# Altium schematic symbol library dungvh03-CERN_Logic.SchLib: 486 symbols (part 6 of 54)
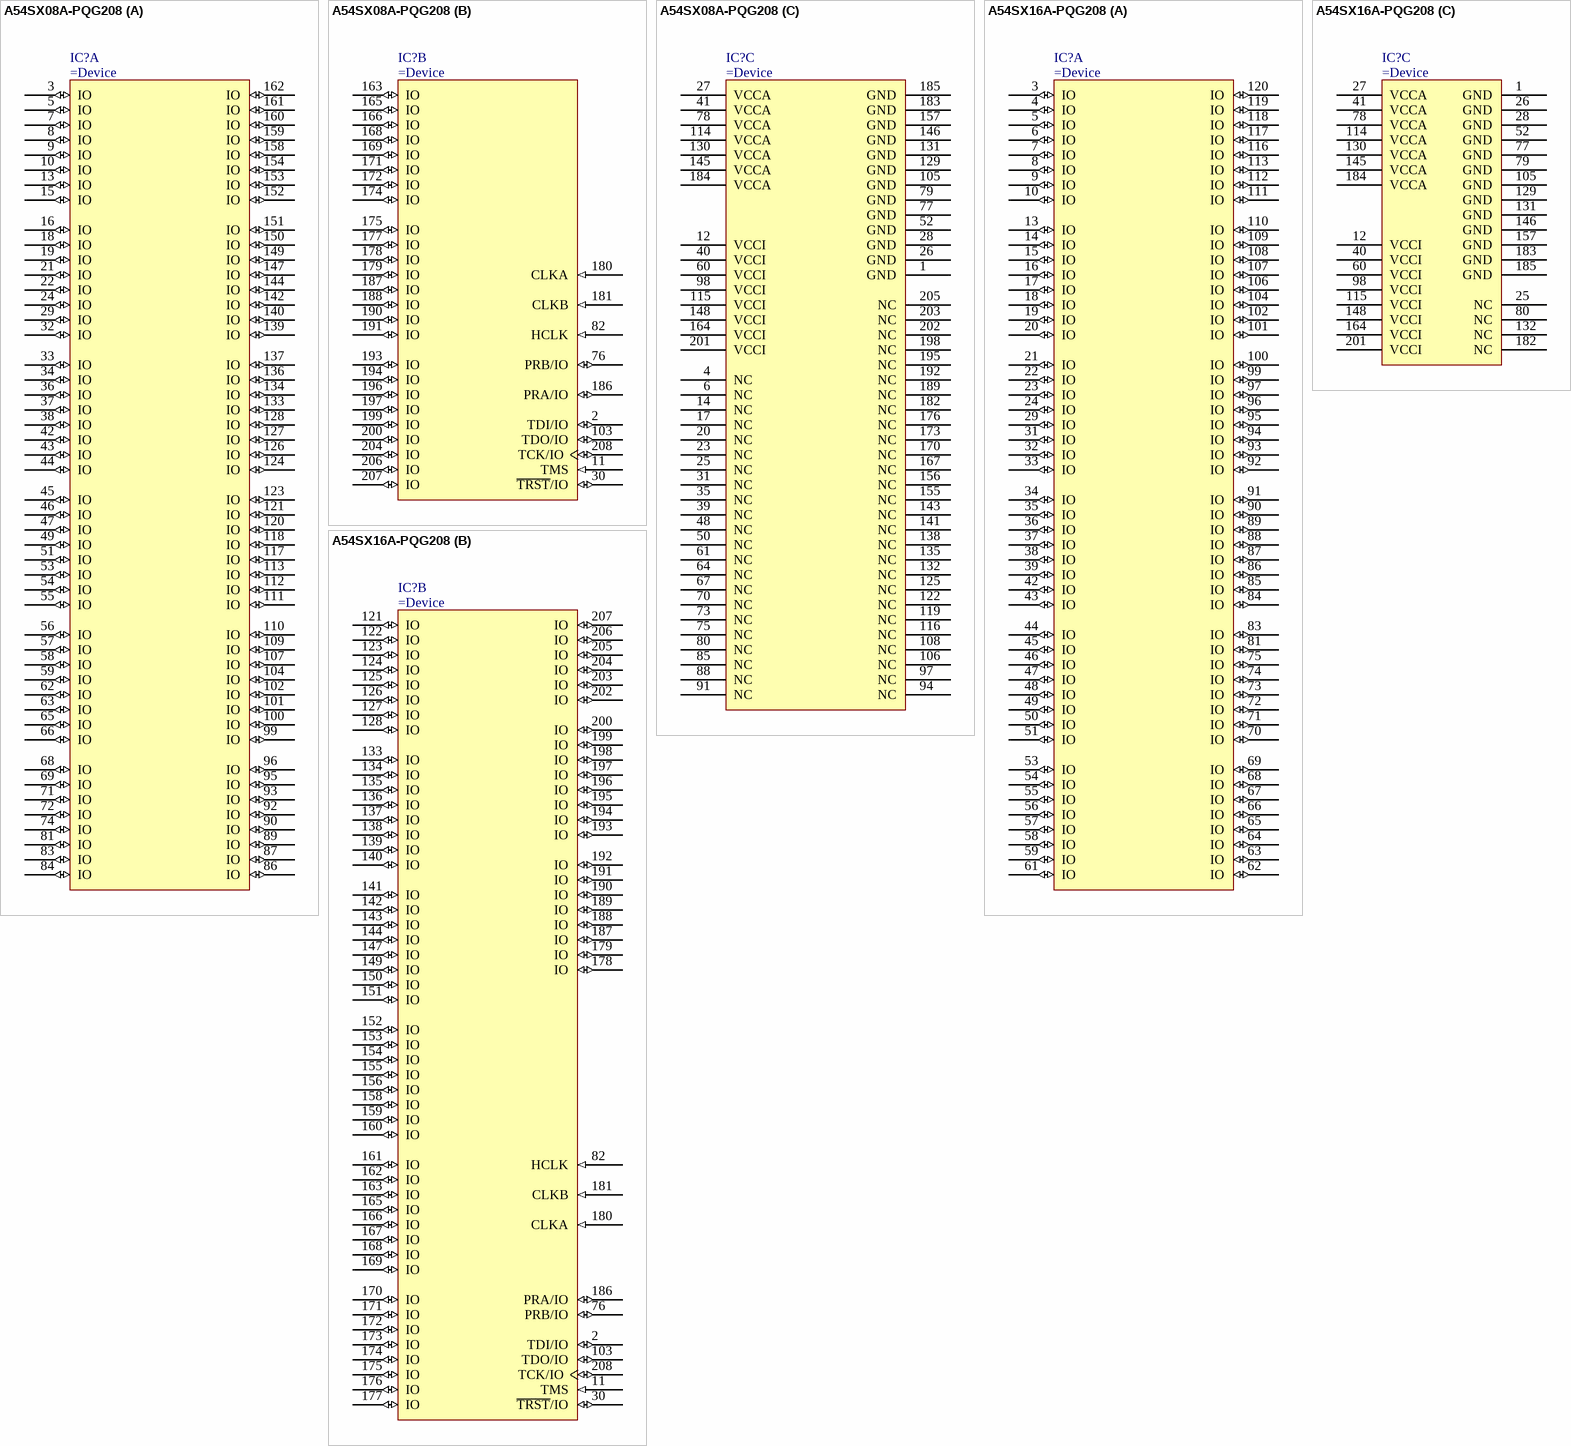
[diagram p266: symbols A54SX08A-PQG208 to A54SX16A-PQG208]

## A54SX08A-PQG208
designator IC?
A54SX16A FPGA, 130 User IOs, 208-Pin PQFP, Standard Speed Grade, Commercial Grade, Pb-Free
part A pins: 3 IO (io), 5 IO (io), 7 IO (io), 8 IO (io), 9 IO (io), 10 IO (io), 13 IO (io), 15 IO (io), 16 IO (io), 18 IO (io), 19 IO (io), 21 IO (io), 22 IO (io), 24 IO (io), 29 IO (io), 32 IO (io), 33 IO (io), 34 IO (io), 36 IO (io), 37 IO (io), 38 IO (io), 42 IO (io), 43 IO (io), 44 IO (io), 45 IO (io), 46 IO (io), 47 IO (io), 49 IO (io), 51 IO (io), 53 IO (io), 54 IO (io), 55 IO (io), 56 IO (io), 57 IO (io), 58 IO (io), 59 IO (io), 62 IO (io), 63 IO (io), 65 IO (io), 66 IO (io), 68 IO (io), 69 IO (io), 71 IO (io), 72 IO (io), 74 IO (io), 81 IO (io), 83 IO (io), 84 IO (io), 86 IO (io), 87 IO (io), 89 IO (io), 90 IO (io), 92 IO (io), 93 IO (io), 95 IO (io), 96 IO (io), 99 IO (io), 100 IO (io), 101 IO (io), 102 IO (io), 104 IO (io), 107 IO (io), 109 IO (io), 110 IO (io), 111 IO (io), 112 IO (io), 113 IO (io), 117 IO (io), 118 IO (io), 120 IO (io), 121 IO (io), 123 IO (io), 124 IO (io), 126 IO (io), 127 IO (io), 128 IO (io), 133 IO (io), 134 IO (io), 136 IO (io), 137 IO (io), 139 IO (io), 140 IO (io), 142 IO (io), 144 IO (io), 147 IO (io), 149 IO (io), 150 IO (io), 151 IO (io), 152 IO (io), 153 IO (io), 154 IO (io), 158 IO (io), 159 IO (io), 160 IO (io), 161 IO (io), 162 IO (io)
part B pins: 2 TDI/IO (io), 11 TMS (in), 30 ~{TRST}/IO (io), 76 PRB/IO (io), 82 HCLK (in), 103 TDO/IO (io), 163 IO (io), 165 IO (io), 166 IO (io), 168 IO (io), 169 IO (io), 171 IO (io), 172 IO (io), 174 IO (io), 175 IO (io), 177 IO (io), 178 IO (io), 179 IO (io), 180 CLKA (in), 181 CLKB (in), 186 PRA/IO (io), 187 IO (io), 188 IO (io), 190 IO (io), 191 IO (io), 193 IO (io), 194 IO (io), 196 IO (io), 197 IO (io), 199 IO (io), 200 IO (io), 204 IO (io), 206 IO (io), 207 IO (io), 208 TCK/IO (io)
part C pins: 1 GND (power), 4 NC, 6 NC, 12 VCCI (power), 14 NC, 17 NC, 20 NC, 23 NC, 25 NC, 26 GND (power), 27 VCCA (power), 28 GND (power), 31 NC, 35 NC, 39 NC, 40 VCCI (power), 41 VCCA (power), 48 NC, 50 NC, 52 GND (power), 60 VCCI (power), 61 NC, 64 NC, 67 NC, 70 NC, 73 NC, 75 NC, 77 GND (power), 78 VCCA (power), 79 GND (power), 80 NC, 85 NC, 88 NC, 91 NC, 94 NC, 97 NC, 98 VCCI (power), 105 GND (power), 106 NC, 108 NC, 114 VCCA (power), 115 VCCI (power), 116 NC, 119 NC, 122 NC, 125 NC, 129 GND (power), 130 VCCA (power), 131 GND (power), 132 NC, 135 NC, 138 NC, 141 NC, 143 NC, 145 VCCA (power), 146 GND (power), 148 VCCI (power), 155 NC, 156 NC, 157 GND (power), 164 VCCI (power), 167 NC, 170 NC, 173 NC, 176 NC, 182 NC, 183 GND (power), 184 VCCA (power), 185 GND (power), 189 NC, 192 NC, 195 NC, 198 NC, 201 VCCI (power), 202 NC, 203 NC, 205 NC

## A54SX16A-PQG208
designator IC?
A54SX16A FPGA, 175 User IOs, 208-Pin PQFP, Standard Speed Grade, Commercial Grade, Pb-Free
part A pins: 3 IO (io), 4 IO (io), 5 IO (io), 6 IO (io), 7 IO (io), 8 IO (io), 9 IO (io), 10 IO (io), 13 IO (io), 14 IO (io), 15 IO (io), 16 IO (io), 17 IO (io), 18 IO (io), 19 IO (io), 20 IO (io), 21 IO (io), 22 IO (io), 23 IO (io), 24 IO (io), 29 IO (io), 31 IO (io), 32 IO (io), 33 IO (io), 34 IO (io), 35 IO (io), 36 IO (io), 37 IO (io), 38 IO (io), 39 IO (io), 42 IO (io), 43 IO (io), 44 IO (io), 45 IO (io), 46 IO (io), 47 IO (io), 48 IO (io), 49 IO (io), 50 IO (io), 51 IO (io), 53 IO (io), 54 IO (io), 55 IO (io), 56 IO (io), 57 IO (io), 58 IO (io), 59 IO (io), 61 IO (io), 62 IO (io), 63 IO (io), 64 IO (io), 65 IO (io), 66 IO (io), 67 IO (io), 68 IO (io), 69 IO (io), 70 IO (io), 71 IO (io), 72 IO (io), 73 IO (io), 74 IO (io), 75 IO (io), 81 IO (io), 83 IO (io), 84 IO (io), 85 IO (io), 86 IO (io), 87 IO (io), 88 IO (io), 89 IO (io), 90 IO (io), 91 IO (io), 92 IO (io), 93 IO (io), 94 IO (io), 95 IO (io), 96 IO (io), 97 IO (io), 99 IO (io), 100 IO (io), 101 IO (io), 102 IO (io), 104 IO (io), 106 IO (io), 107 IO (io), 108 IO (io), 109 IO (io), 110 IO (io), 111 IO (io), 112 IO (io), 113 IO (io), 116 IO (io), 117 IO (io), 118 IO (io), 119 IO (io), 120 IO (io)
part B pins: 2 TDI/IO (io), 11 TMS (in), 30 ~{TRST}/IO (io), 76 PRB/IO (io), 82 HCLK (in), 103 TDO/IO (io), 121 IO (io), 122 IO (io), 123 IO (io), 124 IO (io), 125 IO (io), 126 IO (io), 127 IO (io), 128 IO (io), 133 IO (io), 134 IO (io), 135 IO (io), 136 IO (io), 137 IO (io), 138 IO (io), 139 IO (io), 140 IO (io), 141 IO (io), 142 IO (io), 143 IO (io), 144 IO (io), 147 IO (io), 149 IO (io), 150 IO (io), 151 IO (io), 152 IO (io), 153 IO (io), 154 IO (io), 155 IO (io), 156 IO (io), 158 IO (io), 159 IO (io), 160 IO (io), 161 IO (io), 162 IO (io), 163 IO (io), 165 IO (io), 166 IO (io), 167 IO (io), 168 IO (io), 169 IO (io), 170 IO (io), 171 IO (io), 172 IO (io), 173 IO (io), 174 IO (io), 175 IO (io), 176 IO (io), 177 IO (io), 178 IO (io), 179 IO (io), 180 CLKA (in), 181 CLKB (in), 186 PRA/IO (io), 187 IO (io), 188 IO (io), 189 IO (io), 190 IO (io), 191 IO (io), 192 IO (io), 193 IO (io), 194 IO (io), 195 IO (io), 196 IO (io), 197 IO (io), 198 IO (io), 199 IO (io), 200 IO (io), 202 IO (io), 203 IO (io), 204 IO (io), 205 IO (io), 206 IO (io), 207 IO (io), 208 TCK/IO (io)
part C pins: 1 GND (power), 12 VCCI (power), 25 NC, 26 GND (power), 27 VCCA (power), 28 GND (power), 40 VCCI (power), 41 VCCA (power), 52 GND (power), 60 VCCI (power), 77 GND (power), 78 VCCA (power), 79 GND (power), 80 NC, 98 VCCI (power), 105 GND (power), 114 VCCA (power), 115 VCCI (power), 129 GND (power), 130 VCCA (power), 131 GND (power), 132 NC, 145 VCCA (power), 146 GND (power), 148 VCCI (power), 157 GND (power), 164 VCCI (power), 182 NC, 183 GND (power), 184 VCCA (power), 185 GND (power), 201 VCCI (power)

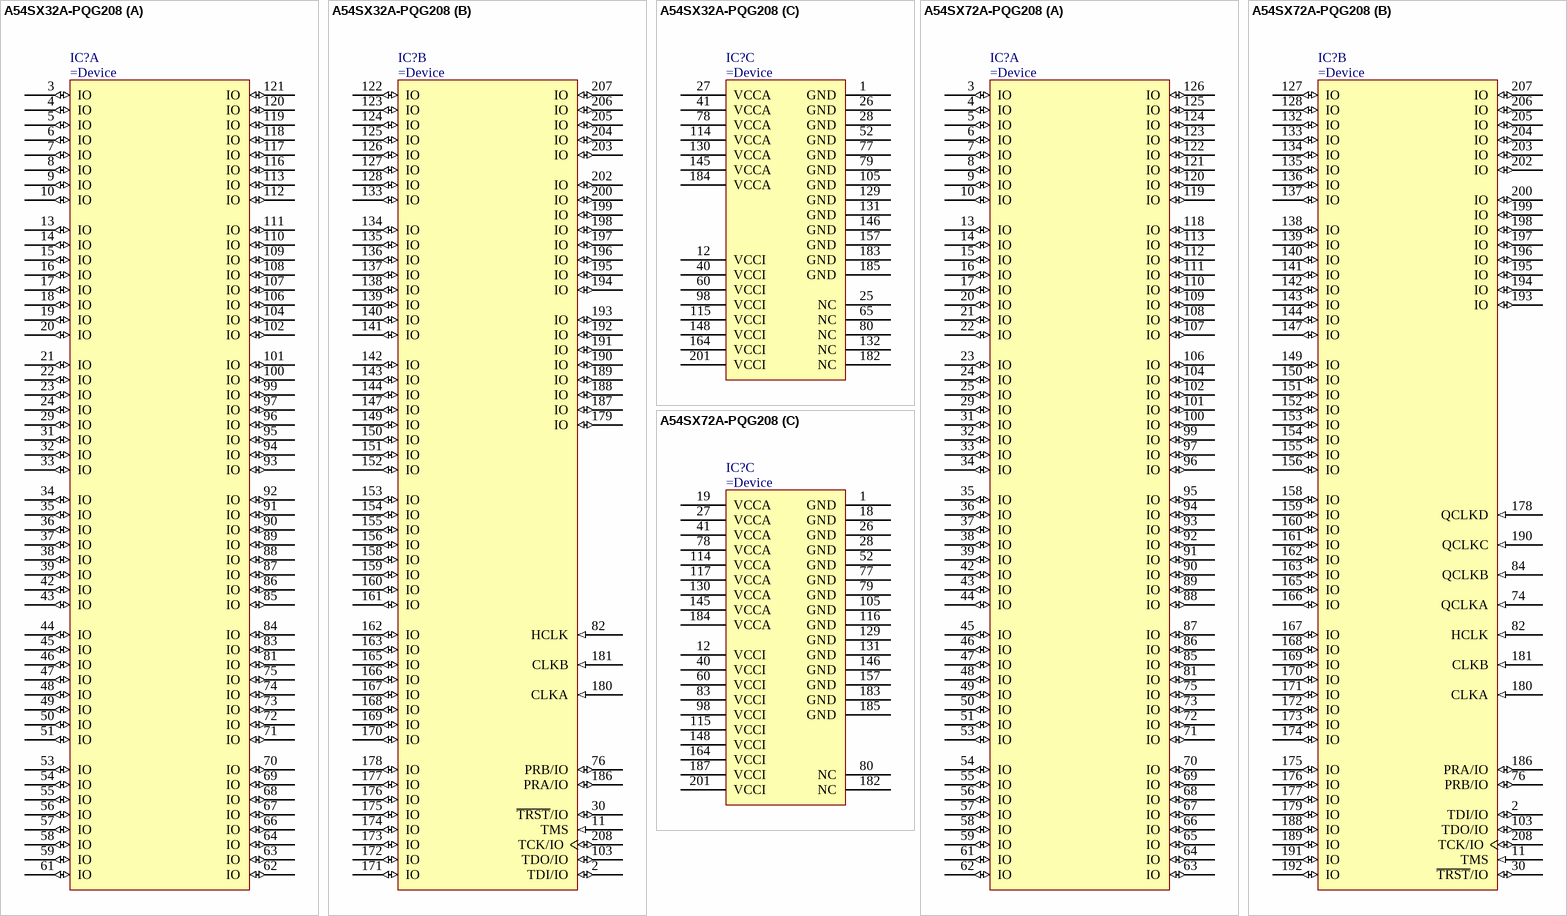
[diagram p29: symbols A54SX32A-PQG208 to A54SX72A-PQG208]

## A54SX32A-PQG208
designator IC?
A54SX32A FPGA, 174 User IOs, 208-Pin PQFP, Standard Speed Grade, Commercial Grade, Pb-Free
part A pins: 3 IO (io), 4 IO (io), 5 IO (io), 6 IO (io), 7 IO (io), 8 IO (io), 9 IO (io), 10 IO (io), 13 IO (io), 14 IO (io), 15 IO (io), 16 IO (io), 17 IO (io), 18 IO (io), 19 IO (io), 20 IO (io), 21 IO (io), 22 IO (io), 23 IO (io), 24 IO (io), 29 IO (io), 31 IO (io), 32 IO (io), 33 IO (io), 34 IO (io), 35 IO (io), 36 IO (io), 37 IO (io), 38 IO (io), 39 IO (io), 42 IO (io), 43 IO (io), 44 IO (io), 45 IO (io), 46 IO (io), 47 IO (io), 48 IO (io), 49 IO (io), 50 IO (io), 51 IO (io), 53 IO (io), 54 IO (io), 55 IO (io), 56 IO (io), 57 IO (io), 58 IO (io), 59 IO (io), 61 IO (io), 62 IO (io), 63 IO (io), 64 IO (io), 66 IO (io), 67 IO (io), 68 IO (io), 69 IO (io), 70 IO (io), 71 IO (io), 72 IO (io), 73 IO (io), 74 IO (io), 75 IO (io), 81 IO (io), 83 IO (io), 84 IO (io), 85 IO (io), 86 IO (io), 87 IO (io), 88 IO (io), 89 IO (io), 90 IO (io), 91 IO (io), 92 IO (io), 93 IO (io), 94 IO (io), 95 IO (io), 96 IO (io), 97 IO (io), 99 IO (io), 100 IO (io), 101 IO (io), 102 IO (io), 104 IO (io), 106 IO (io), 107 IO (io), 108 IO (io), 109 IO (io), 110 IO (io), 111 IO (io), 112 IO (io), 113 IO (io), 116 IO (io), 117 IO (io), 118 IO (io), 119 IO (io), 120 IO (io), 121 IO (io)
part B pins: 2 TDI/IO (io), 11 TMS (in), 30 ~{TRST}/IO (io), 76 PRB/IO (io), 82 HCLK (in), 103 TDO/IO (io), 122 IO (io), 123 IO (io), 124 IO (io), 125 IO (io), 126 IO (io), 127 IO (io), 128 IO (io), 133 IO (io), 134 IO (io), 135 IO (io), 136 IO (io), 137 IO (io), 138 IO (io), 139 IO (io), 140 IO (io), 141 IO (io), 142 IO (io), 143 IO (io), 144 IO (io), 147 IO (io), 149 IO (io), 150 IO (io), 151 IO (io), 152 IO (io), 153 IO (io), 154 IO (io), 155 IO (io), 156 IO (io), 158 IO (io), 159 IO (io), 160 IO (io), 161 IO (io), 162 IO (io), 163 IO (io), 165 IO (io), 166 IO (io), 167 IO (io), 168 IO (io), 169 IO (io), 170 IO (io), 171 IO (io), 172 IO (io), 173 IO (io), 174 IO (io), 175 IO (io), 176 IO (io), 177 IO (io), 178 IO (io), 179 IO (io), 180 CLKA (in), 181 CLKB (in), 186 PRA/IO (io), 187 IO (io), 188 IO (io), 189 IO (io), 190 IO (io), 191 IO (io), 192 IO (io), 193 IO (io), 194 IO (io), 195 IO (io), 196 IO (io), 197 IO (io), 198 IO (io), 199 IO (io), 200 IO (io), 202 IO (io), 203 IO (io), 204 IO (io), 205 IO (io), 206 IO (io), 207 IO (io), 208 TCK/IO (io)
part C pins: 1 GND (power), 12 VCCI (power), 25 NC, 26 GND (power), 27 VCCA (power), 28 GND (power), 40 VCCI (power), 41 VCCA (power), 52 GND (power), 60 VCCI (power), 65 NC, 77 GND (power), 78 VCCA (power), 79 GND (power), 80 NC, 98 VCCI (power), 105 GND (power), 114 VCCA (power), 115 VCCI (power), 129 GND (power), 130 VCCA (power), 131 GND (power), 132 NC, 145 VCCA (power), 146 GND (power), 148 VCCI (power), 157 GND (power), 164 VCCI (power), 182 NC, 183 GND (power), 184 VCCA (power), 185 GND (power), 201 VCCI (power)

## A54SX72A-PQG208
designator IC?
A54SX72A FPGA, 171 User IOs, 208-Pin PQFP, Standard Speed Grade, Commercial Grade, Pb-Free
part A pins: 3 IO (io), 4 IO (io), 5 IO (io), 6 IO (io), 7 IO (io), 8 IO (io), 9 IO (io), 10 IO (io), 13 IO (io), 14 IO (io), 15 IO (io), 16 IO (io), 17 IO (io), 20 IO (io), 21 IO (io), 22 IO (io), 23 IO (io), 24 IO (io), 25 IO (io), 29 IO (io), 31 IO (io), 32 IO (io), 33 IO (io), 34 IO (io), 35 IO (io), 36 IO (io), 37 IO (io), 38 IO (io), 39 IO (io), 42 IO (io), 43 IO (io), 44 IO (io), 45 IO (io), 46 IO (io), 47 IO (io), 48 IO (io), 49 IO (io), 50 IO (io), 51 IO (io), 53 IO (io), 54 IO (io), 55 IO (io), 56 IO (io), 57 IO (io), 58 IO (io), 59 IO (io), 61 IO (io), 62 IO (io), 63 IO (io), 64 IO (io), 65 IO (io), 66 IO (io), 67 IO (io), 68 IO (io), 69 IO (io), 70 IO (io), 71 IO (io), 72 IO (io), 73 IO (io), 75 IO (io), 81 IO (io), 85 IO (io), 86 IO (io), 87 IO (io), 88 IO (io), 89 IO (io), 90 IO (io), 91 IO (io), 92 IO (io), 93 IO (io), 94 IO (io), 95 IO (io), 96 IO (io), 97 IO (io), 99 IO (io), 100 IO (io), 101 IO (io), 102 IO (io), 104 IO (io), 106 IO (io), 107 IO (io), 108 IO (io), 109 IO (io), 110 IO (io), 111 IO (io), 112 IO (io), 113 IO (io), 118 IO (io), 119 IO (io), 120 IO (io), 121 IO (io), 122 IO (io), 123 IO (io), 124 IO (io), 125 IO (io), 126 IO (io)
part B pins: 2 TDI/IO (io), 11 TMS (in), 30 ~{TRST}/IO (io), 74 QCLKA (in), 76 PRB/IO (io), 82 HCLK (in), 84 QCLKB (in), 103 TDO/IO (io), 127 IO (io), 128 IO (io), 132 IO (io), 133 IO (io), 134 IO (io), 135 IO (io), 136 IO (io), 137 IO (io), 138 IO (io), 139 IO (io), 140 IO (io), 141 IO (io), 142 IO (io), 143 IO (io), 144 IO (io), 147 IO (io), 149 IO (io), 150 IO (io), 151 IO (io), 152 IO (io), 153 IO (io), 154 IO (io), 155 IO (io), 156 IO (io), 158 IO (io), 159 IO (io), 160 IO (io), 161 IO (io), 162 IO (io), 163 IO (io), 165 IO (io), 166 IO (io), 167 IO (io), 168 IO (io), 169 IO (io), 170 IO (io), 171 IO (io), 172 IO (io), 173 IO (io), 174 IO (io), 175 IO (io), 176 IO (io), 177 IO (io), 178 QCLKD (in), 179 IO (io), 180 CLKA (in), 181 CLKB (in), 186 PRA/IO (io), 188 IO (io), 189 IO (io), 190 QCLKC (in), 191 IO (io), 192 IO (io), 193 IO (io), 194 IO (io), 195 IO (io), 196 IO (io), 197 IO (io), 198 IO (io), 199 IO (io), 200 IO (io), 202 IO (io), 203 IO (io), 204 IO (io), 205 IO (io), 206 IO (io), 207 IO (io), 208 TCK/IO (io)
part C pins: 1 GND (power), 12 VCCI (power), 18 GND (power), 19 VCCA (power), 26 GND (power), 27 VCCA (power), 28 GND (power), 40 VCCI (power), 41 VCCA (power), 52 GND (power), 60 VCCI (power), 77 GND (power), 78 VCCA (power), 79 GND (power), 80 NC, 83 VCCI (power), 98 VCCI (power), 105 GND (power), 114 VCCA (power), 115 VCCI (power), 116 GND (power), 117 VCCA (power), 129 GND (power), 130 VCCA (power), 131 GND (power), 145 VCCA (power), 146 GND (power), 148 VCCI (power), 157 GND (power), 164 VCCI (power), 182 NC, 183 GND (power), 184 VCCA (power), 185 GND (power), 187 VCCI (power), 201 VCCI (power)

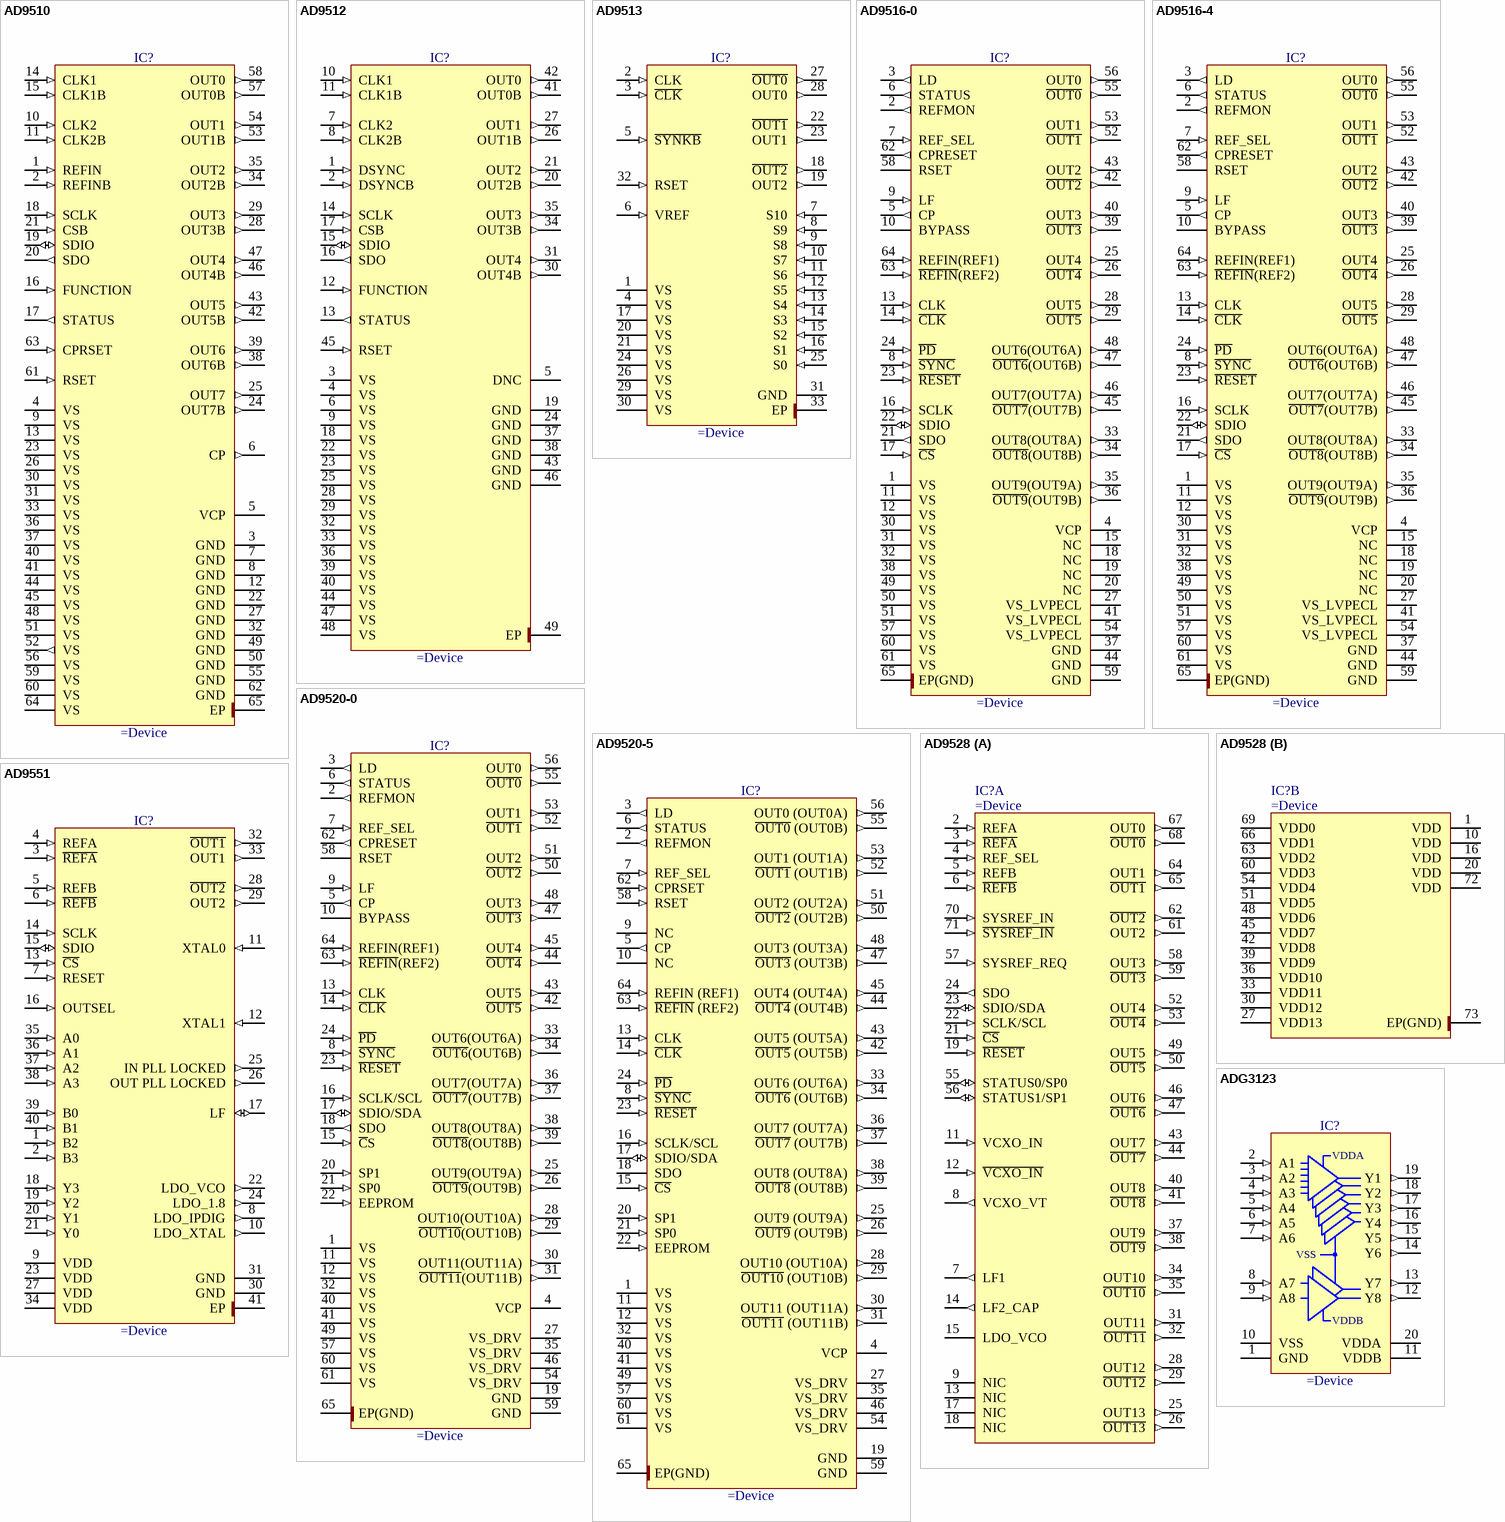
[diagram p30: symbols AD9510 to ADG3123]

## AD9510
designator IC?
1.2 GHz Clock Distribution IC, PLL Core, Dividers, Delay Adjust, Eight Outputs
pins: 1 REFIN (in), 2 REFINB (in), 3 GND (power), 4 VS (power), 5 VCP (power), 6 CP (out), 7 GND (power), 8 GND (power), 9 VS (power), 10 CLK2 (in), 11 CLK2B (in), 12 GND (power), 13 VS (power), 14 CLK1 (in), 15 CLK1B (in), 16 FUNCTION (in), 17 STATUS (out), 18 SCLK (in), 19 SDIO (io), 20 SDO (out), 21 CSB (in), 22 GND (power), 23 VS (power), 24 OUT7B (out), 25 OUT7 (out), 26 VS (power), 27 GND (power), 28 OUT3B (out), 29 OUT3 (out), 30 VS (power), 31 VS (power), 32 GND (power), 33 VS (power), 34 OUT2B (out), 35 OUT2 (out), 36 VS (power), 37 VS (power), 38 OUT6B (out), 39 OUT6 (out), 40 VS (power), 41 VS (power), 42 OUT5B (out), 43 OUT5 (out), 44 VS (power), 45 VS (power), 46 OUT4B (out), 47 OUT4 (out), 48 VS (power), 49 GND (power), 50 GND (power), 51 VS (power), 52 VS (out), 53 OUT1B (out), 54 OUT1 (out), 55 GND (power), 56 VS (power), 57 OUT0B (out), 58 OUT0 (out), 59 VS (power), 60 VS (power), 61 RSET (in), 62 GND (power), 63 CPRSET (in), 64 VS (power), 65 EP (power)

## AD9512
designator IC?
1.2 GHz Clock Distribution IC, 1.6 GHz Inputs,  Dividers, Delay Adjust, Five Outputs
pins: 1 DSYNC (in), 2 DSYNCB (in), 3 VS (power), 4 VS (power), 5 DNC, 6 VS (power), 7 CLK2 (in), 8 CLK2B (in), 9 VS (power), 10 CLK1 (in), 11 CLK1B (in), 12 FUNCTION (in), 13 STATUS (out), 14 SCLK (in), 15 SDIO (io), 16 SDO (out), 17 CSB (in), 18 VS (power), 19 GND (power), 20 OUT2B (out), 21 OUT2 (out), 22 VS (power), 23 VS (power), 24 GND (power), 25 VS (power), 26 OUT1B (out), 27 OUT1 (out), 28 VS (power), 29 VS (power), 30 OUT4B (out), 31 OUT4 (out), 32 VS (power), 33 VS (power), 34 OUT3B (out), 35 OUT3 (out), 36 VS (power), 37 GND (power), 38 GND (power), 39 VS (power), 40 VS (power), 41 OUT0B (out), 42 OUT0 (out), 43 GND (power), 44 VS (power), 45 RSET (in), 46 GND (power), 47 VS (power), 48 VS (power), 49 EP (power)

## AD9513
designator IC?
800 MHz Clock distribution IC, dividers, Delay Adjust, Three Outputs
pins: 1 VS (power), 2 CLK (in), 3 ~{CLK} (in), 4 VS (power), 5 ~{SYNKB} (in), 6 VREF (in), 7 S10 (in), 8 S9 (in), 9 S8 (in), 10 S7 (in), 11 S6 (in), 12 S5 (in), 13 S4 (in), 14 S3 (in), 15 S2 (in), 16 S1 (in), 17 VS (power), 18 ~{OUT2} (out), 19 OUT2 (out), 20 VS (power), 21 VS (power), 22 ~{OUT1} (out), 23 OUT1 (out), 24 VS (power), 25 S0 (in), 26 VS (power), 27 ~{OUT0} (out), 28 OUT0 (out), 29 VS (power), 30 VS (power), 31 GND (power), 32 RSET (in), 33 EP (power)

## AD9516-0
designator IC?
14-Output Clock Generator with Integrated 2.8 GHz VCO
pins: 1 VS (power), 2 REFMON (out), 3 LD (out), 4 VCP (power), 5 CP (out), 6 STATUS (out), 7 REF_SEL (in), 8 ~{SYNC} (in), 9 LF (in), 10 BYPASS, 11 VS (power), 12 VS (power), 13 CLK (in), 14 ~{CLK} (in), 15 NC, 16 SCLK (in), 17 ~{CS} (in), 18 NC, 19 NC, 20 NC, 21 SDO (out), 22 SDIO (io), 23 ~{RESET} (in), 24 ~{PD} (in), 25 OUT4 (out), 26 ~{OUT4} (out), 27 VS_LVPECL (power), 28 OUT5 (out), 29 ~{OUT5} (out), 30 VS (power), 31 VS (power), 32 VS (power), 33 OUT8(OUT8A) (out), 34 ~{OUT8}(OUT8B) (out), 35 OUT9(OUT9A) (out), 36 ~{OUT9}(OUT9B) (out), 37 GND (power), 38 VS (power), 39 ~{OUT3} (out), 40 OUT3 (out), 41 VS_LVPECL (power), 42 ~{OUT2} (out), 43 OUT2 (out), 44 GND (power), 45 ~{OUT7}(OUT7B) (out), 46 OUT7(OUT7A) (out), 47 ~{OUT6}(OUT6B) (out), 48 OUT6(OUT6A) (out), 49 VS (power), 50 VS (power), 51 VS (power), 52 ~{OUT1} (out), 53 OUT1 (out), 54 VS_LVPECL (power), 55 ~{OUT0} (out), 56 OUT0 (out), 57 VS (power), 58 RSET, 59 GND (power), 60 VS (power), 61 VS (power), 62 CPRESET (out), 63 ~{REFIN}(REF2) (in), 64 REFIN(REF1) (in), 65 EP(GND) (power)

## AD9516-4
designator IC?
14-Output Clock Generator with Integrated 1.6 GHz VCO
pins: 1 VS (power), 2 REFMON (out), 3 LD (out), 4 VCP (power), 5 CP (out), 6 STATUS (out), 7 REF_SEL (in), 8 ~{SYNC} (in), 9 LF (in), 10 BYPASS, 11 VS (power), 12 VS (power), 13 CLK (in), 14 ~{CLK} (in), 15 NC, 16 SCLK (in), 17 ~{CS} (in), 18 NC, 19 NC, 20 NC, 21 SDO (out), 22 SDIO (io), 23 ~{RESET} (in), 24 ~{PD} (in), 25 OUT4 (out), 26 ~{OUT4} (out), 27 VS_LVPECL (power), 28 OUT5 (out), 29 ~{OUT5} (out), 30 VS (power), 31 VS (power), 32 VS (power), 33 OUT8(OUT8A) (out), 34 ~{OUT8}(OUT8B) (out), 35 OUT9(OUT9A) (out), 36 ~{OUT9}(OUT9B) (out), 37 GND (power), 38 VS (power), 39 ~{OUT3} (out), 40 OUT3 (out), 41 VS_LVPECL (power), 42 ~{OUT2} (out), 43 OUT2 (out), 44 GND (power), 45 ~{OUT7}(OUT7B) (out), 46 OUT7(OUT7A) (out), 47 ~{OUT6}(OUT6B) (out), 48 OUT6(OUT6A) (out), 49 VS (power), 50 VS (power), 51 VS (power), 52 ~{OUT1} (out), 53 OUT1 (out), 54 VS_LVPECL (power), 55 ~{OUT0} (out), 56 OUT0 (out), 57 VS (power), 58 RSET, 59 GND (power), 60 VS (power), 61 VS (power), 62 CPRESET (out), 63 ~{REFIN}(REF2) (in), 64 REFIN(REF1) (in), 65 EP(GND) (power)

## AD9520-0
designator IC?
12 LVPECL/24 CMOS Output Clock Generator with Integrated 2.8 GHz VCO
pins: 1 VS (power), 2 REFMON (out), 3 LD (out), 4 VCP (power), 5 CP (out), 6 STATUS (out), 7 REF_SEL (in), 8 ~{SYNC} (in), 9 LF (in), 10 BYPASS, 11 VS (power), 12 VS (power), 13 CLK (in), 14 ~{CLK} (in), 15 ~{C}S (in), 16 SCLK/SCL (in), 17 SDIO/SDA (io), 18 SDO (out), 19 GND (power), 20 SP1 (in), 21 SP0 (in), 22 EEPROM (in), 23 ~{RESET} (in), 24 ~{PD} (in), 25 OUT9(OUT9A) (out), 26 ~{OUT9}(OUT9B) (out), 27 VS_DRV (power), 28 OUT10(OUT10A) (out), 29 ~{OUT10}(OUT10B) (out), 30 OUT11(OUT11A) (out), 31 ~{OUT11}(OUT11B) (out), 32 VS (power), 33 OUT6(OUT6A) (out), 34 ~{OUT6}(OUT6B) (out), 35 VS_DRV (power), 36 OUT7(OUT7A) (out), 37 ~{OUT7}(OUT7B) (out), 38 OUT8(OUT8A) (out), 39 ~{OUT8}(OUT8B) (out), 40 VS (power), 41 VS (power), 42 ~{OUT5} (out), 43 OUT5 (out), 44 ~{OUT4} (out), 45 OUT4 (out), 46 VS_DRV (power), 47 ~{OUT3} (out), 48 OUT3 (out), 49 VS (power), 50 ~{OUT2} (out), 51 OUT2 (out), 52 ~{OUT1} (out), 53 OUT1 (out), 54 VS_DRV (power), 55 ~{OUT0} (out), 56 OUT0 (out), 57 VS (power), 58 RSET, 59 GND (power), 60 VS (power), 61 VS (power), 62 CPRESET (out), 63 ~{REFIN}(REF2) (in), 64 REFIN(REF1) (in), 65 EP(GND) (power)

## AD9520-5
designator IC?
12 LVPECL/24 CMOS Output Clock Generator
pins: 1 VS (power) "3.3 V Power Pins.", 2 REFMON (out) "Reference Monitor (Output). This pin has multiple selectable outputs.", 3 LD (out) "Lock Detect (Output). This pin has multiple selectable outputs.", 4 VCP (power) "Power Supply for Charge Pump (CP); VS < VCP < 5.0 V. VCP must still be connected to 3.3 V if the PLL is not used.", 5 CP (out) "Charge Pump (Output). This pin connects to an external loop filter. This pin can be left unconnected if the PLL is not used.", 6 STATUS (out) "Programmable Status Output.", 7 REF_SEL (in) "Reference Select. It selects REF1 (low) or REF2 (high). This pin has an internal 30 K ohm pull-down resistor.", 8 ~{SYNC} (in) "Manual Synchronization and Manual Holdover. This pin initiates a manual synchronization and is used for manual holdover. Active low. This pin has an internal 30 K ohm pull-up resistor.", 9 NC "No Connect. These pins can be left floating.", 10 NC "No Connect. These pins can be left floating.", 11 VS (power) "3.3 V Power Pins.", 12 VS (power) "3.3 V Power Pins.", 13 CLK (in) "Along with C\L\K\, this pin is the differential input for the clock distribution section.", 14 ~{CLK} (in) "Along with CLK, this pin is the differential input for the clock distribution section. If a single-ended input is connected to the CLK pin, connect a 0.1 uF bypass capacitor from   C\L\K\ to  ground.", 15 ~{CS} (in) "Serial Control Port Chip Select; Active Low. This pin has an internal 30 K ohm pull-up resistor.", 16 SCLK/SCL (in) "Serial Control Port Clock Signal. This pin has an internal 30 K ohm pull-down resistor in SPI mode but is high impedance in I2C mode.", 17 SDIO/SDA (io) "Serial Control Port Bidirectional Serial Data In/Out.", 18 SDO (hiz) "Serial Control Port Unidirectional Serial Data Out.", 19 GND (power) "Ground Pins.", 20 SP1 (in) "Select SPI or I2C as the serial interface port and select the I2C slave address in I2C mode. Three-level logic. This pin is internally biased for the open logic level.", 21 SP0 (in) "Select SPI or I2C as the serial interface port and select the I2C slave address in I2C mode. Three-level logic. This pin is internally biased for the open logic level.", 22 EEPROM (in) "Setting this pin high selects the register values stored in the internal EEPROM to be loaded at reset and/or power-up. Setting this pin low causes the AD9520 to load the hard-coded default register values at power-up/reset. [see datasheet]", 23 ~{RESET} (in) "Chip Reset, Active Low. This pin has an internal 30 K ohm pull-up resistor.", 24 ~{PD} (in) "Chip Power-Down, Active Low. This pin has an internal 30 K ohm pull-up resistor.", 25 OUT9 (OUT9A) (out) "Clock Output. This pin can be configured as one side of a differential LVPECL output or as a single-ended CMOS output.", 26 ~{OUT9} (OUT9B) (out) "Clock Output. This pin can be configured as one side of a differential LVPECL output or as a single-ended CMOS output.", 27 VS_DRV (power) "Output Driver Power Supply Pins. As a group, these pins can be set to either 2.5 V or 3.3 V. All four pins must be set to the same voltage.", 28 OUT10 (OUT10A) (out) "Clock Output. This pin can be configured as one side of a differential LVPECL output or as a single-ended CMOS output.", 29 ~{OUT10} (OUT10B) (out) "Clock Output. This pin can be configured as one side of a differential LVPECL output or as a single-ended CMOS output.", 30 OUT11 (OUT11A) (out) "Clock Output. This pin can be configured as one side of a differential LVPECL output or as a single-ended CMOS output.", 31 ~{OUT11} (OUT11B) (out) "Clock Output. This pin can be configured as one side of a differential LVPECL output or as a single-ended CMOS output.", 32 VS (power) "3.3 V Power Pins.", 33 OUT6 (OUT6A) (out) "Clock Output. This pin can be configured as one side of a differential LVPECL output or as a single-ended CMOS output.", 34 ~{OUT6} (OUT6B) (out) "Clock Output. This pin can be configured as one side of a differential LVPECL output or as a single-ended CMOS output.", 35 VS_DRV (power) "Output Driver Power Supply Pins. As a group, these pins can be set to either 2.5 V or 3.3 V. All four pins must be set to the same voltage.", 36 OUT7 (OUT7A) (out) "Clock Output. This pin can be configured as one side of a differential LVPECL output or as a single-ended CMOS output.", 37 ~{OUT7} (OUT7B) (out) "Clock Output. This pin can be configured as one side of a differential LVPECL output or as a single-ended CMOS output.", 38 OUT8 (OUT8A) (out) "Clock Output. This pin can be configured as one side of a differential LVPECL output or as a single-ended CMOS output.", 39 ~{OUT8} (OUT8B) (out) "Clock Output. This pin can be configured as one side of a differential LVPECL output or as a single-ended CMOS output.", 40 VS (power) "3.3 V Power Pins.", 41 VS (power) "3.3 V Power Pins.", 42 ~{OUT5} (OUT5B) (out) "Clock Output. This pin can be configured as one side of a differential LVPECL output or as a single-ended CMOS output.", 43 OUT5 (OUT5A) (out) "Clock Output. This pin can be configured as one side of a differential LVPECL output or as a single-ended CMOS output.", 44 ~{OUT4} (OUT4B) (out) "Clock Output. This pin can be configured as one side of a differential LVPECL output or as a single-ended CMOS output.", 45 OUT4 (OUT4A) (out) "Clock Output. This pin can be configured as one side of a differential LVPECL output or as a single-ended CMOS output.", 46 VS_DRV (power) "Output Driver Power Supply Pins. As a group, these pins can be set to either 2.5 V or 3.3 V. All four pins must be set to the same voltage.", 47 ~{OUT3} (OUT3B) (out) "Clock Output. This pin can be configured as one side of a differential LVPECL output or as a single-ended CMOS output.", 48 OUT3 (OUT3A) (out) "Clock Output. This pin can be configured as one side of a differential LVPECL output or as a single-ended CMOS output.", 49 VS (power) "3.3 V Power Pins.", 50 ~{OUT2} (OUT2B) (out) "Clock Output. This pin can be configured as one side of a differential LVPECL output or as a single-ended CMOS output.", 51 OUT2 (OUT2A) (out) "Clock Output. This pin can be configured as one side of a differential LVPECL output or as a single-ended CMOS output.", 52 ~{OUT1} (OUT1B) (out) "Clock Output. This pin can be configured as one side of a differential LVPECL output or as a single-ended CMOS output.", 53 OUT1 (OUT1A) (out) "Clock Output. This pin can be configured as one side of a differential LVPECL output or as a single-ended CMOS output.", 54 VS_DRV (power) "Output Driver Power Supply Pins. As a group, these pins can be set to either 2.5 V or 3.3 V. All four pins must be set to the same voltage.", 55 ~{OUT0} (OUT0B) (out) "Clock Output. This pin can be configured as one side of a differential LVPECL output or as a single-ended CMOS output.", 56 OUT0 (OUT0A) (out) "Clock Output. This pin can be configured as one side of a differential LVPECL output or as a single-ended CMOS output.", 57 VS (power) "3.3 V Power Pins.", 58 RSET (in) "Clock Distribution Current Set Resistor. Connect a 4.12 K ohm resistor from this pin to GND.", 59 GND (power) "Ground Pins.", 60 VS (power) "3.3 V Power Pins.", 61 VS (power) "3.3 V Power Pins.", 62 CPRSET (in) "Charge Pump Current Set Resistor. Connect a 5.1 K ohm resistor from this pin to GND.This resistor can be omitted if the PLL is not used.", 63 ~{REFIN} (REF2) (in) "Along with REFIN, this is the differential input for the PLL reference. Alternatively, this pin is a single-ended input for REF2. This pin can be left unconnected when the PLL is not used.", 64 REFIN (REF1) (in) "Along with R\E\F\I\N\, this is the differential input for the PLL reference. Alternatively, this pin is a single-ended input for REF1.This pin can be left unconnected when the PLL is not used.", 65 EP(GND) (power) "The exposed die pad must be connected to GND."

## AD9528
designator IC?
Clock Generator with 14 LVDS/HSTL Outputs
part A pins: 2 REFA (in), 3 ~{REFA} (in), 4 REF_SEL (in), 5 REFB (in), 6 ~{REFB} (in), 7 LF1 (out), 8 VCXO_VT (out), 9 NIC, 11 VCXO_IN (in), 12 ~{VCXO_IN} (in), 13 NIC, 14 LF2_CAP (out), 15 LDO_VCO (power), 17 NIC, 18 NIC, 19 ~{RESET} (in), 21 ~{CS} (in), 22 SCLK/SCL (in), 23 SDIO/SDA (io), 24 SDO (out), 25 OUT13 (out), 26 ~{OUT13} (out), 28 OUT12 (out), 29 ~{OUT12} (out), 31 OUT11 (out), 32 ~{OUT11} (out), 34 OUT10 (out), 35 ~{OUT10} (out), 37 OUT9 (out), 38 ~{OUT9} (out), 40 OUT8 (out), 41 ~{OUT8} (out), 43 OUT7 (out), 44 ~{OUT7} (out), 46 OUT6 (out), 47 ~{OUT6} (out), 49 OUT5 (out), 50 ~{OUT5} (out), 52 OUT4 (out), 53 ~{OUT4} (out), 55 STATUS0/SP0 (io), 56 STATUS1/SP1 (io), 57 SYSREF_REQ (in), 58 OUT3 (out), 59 ~{OUT3} (out), 61 OUT2 (out), 62 ~{OUT2} (out), 64 OUT1 (out), 65 ~{OUT1} (out), 67 OUT0 (out), 68 ~{OUT0} (out), 70 SYSREF_IN (in), 71 ~{SYSREF_IN} (in)
part B pins: 1 VDD (power), 10 VDD (power), 16 VDD (power), 20 VDD (power), 27 VDD13 (power), 30 VDD12 (power), 33 VDD11 (power), 36 VDD10 (power), 39 VDD9 (power), 42 VDD8 (power), 45 VDD7 (power), 48 VDD6 (power), 51 VDD5 (power), 54 VDD4 (power), 60 VDD3 (power), 63 VDD2 (power), 66 VDD1 (power), 69 VDD0 (power), 72 VDD (power), 73 EP(GND) (power)

## AD9551
designator IC?
Multiservice Clock Generator
pins: 1 B2 (in), 2 B3 (in), 3 ~{REFA} (in), 4 REFA (in), 5 REFB (in), 6 ~{REFB} (in), 7 RESET (in), 8 LDO_IPDIG (out), 9 VDD (power), 10 LDO_XTAL (out), 11 XTAL0 (in), 12 XTAL1 (in), 13 ~{CS} (in), 14 SCLK (in), 15 SDIO (io), 16 OUTSEL (in), 17 LF (io), 18 Y3 (in), 19 Y2 (in), 20 Y1 (in), 21 Y0 (in), 22 LDO_VCO (out), 23 VDD (power), 24 LDO_1.8 (out), 25 IN PLL LOCKED (out), 26 OUT PLL LOCKED (out), 27 VDD (power), 28 ~{OUT2} (out), 29 OUT2 (out), 30 GND (power), 31 GND (power), 32 ~{OUT1} (out), 33 OUT1 (out), 34 VDD (power), 35 A0 (in), 36 A1 (in), 37 A2 (in), 38 A3 (in), 39 B0 (in), 40 B1 (in), 41 EP (power)

## ADG3123
designator IC?
8-Channel CMOS Logic to High Voltage Level Translator
pins: 1 GND (power) "Ground Reference (0 V).", 2 A1 (in) "Level Translator CMOS Inputs.", 3 A2 (in) "Level Translator CMOS Inputs.", 4 A3 (in) "Level Translator CMOS Inputs.", 5 A4 (in) "Level Translator CMOS Inputs.", 6 A5 (in) "Level Translator CMOS Inputs.", 7 A6 (in) "Level Translator CMOS Inputs.", 8 A7 (in) "Level Translator CMOS Inputs.", 9 A8 (in) "Level Translator CMOS Inputs.", 10 VSS (power) "Most Negative Power Supply.", 11 VDDB (power) "Positive Power Supply.", 12 Y8 (out) "Level Translator High Voltage Outputs.", 13 Y7 (out) "Level Translator High Voltage Outputs.", 14 Y6 (out) "Level Translator High Voltage Outputs.", 15 Y5 (out) "Level Translator High Voltage Outputs.", 16 Y4 (out) "Level Translator High Voltage Outputs.", 17 Y3 (out) "Level Translator High Voltage Outputs.", 18 Y2 (out) "Level Translator High Voltage Outputs.", 19 Y1 (out) "Level Translator High Voltage Outputs.", 20 VDDA (power) "Analog Input."

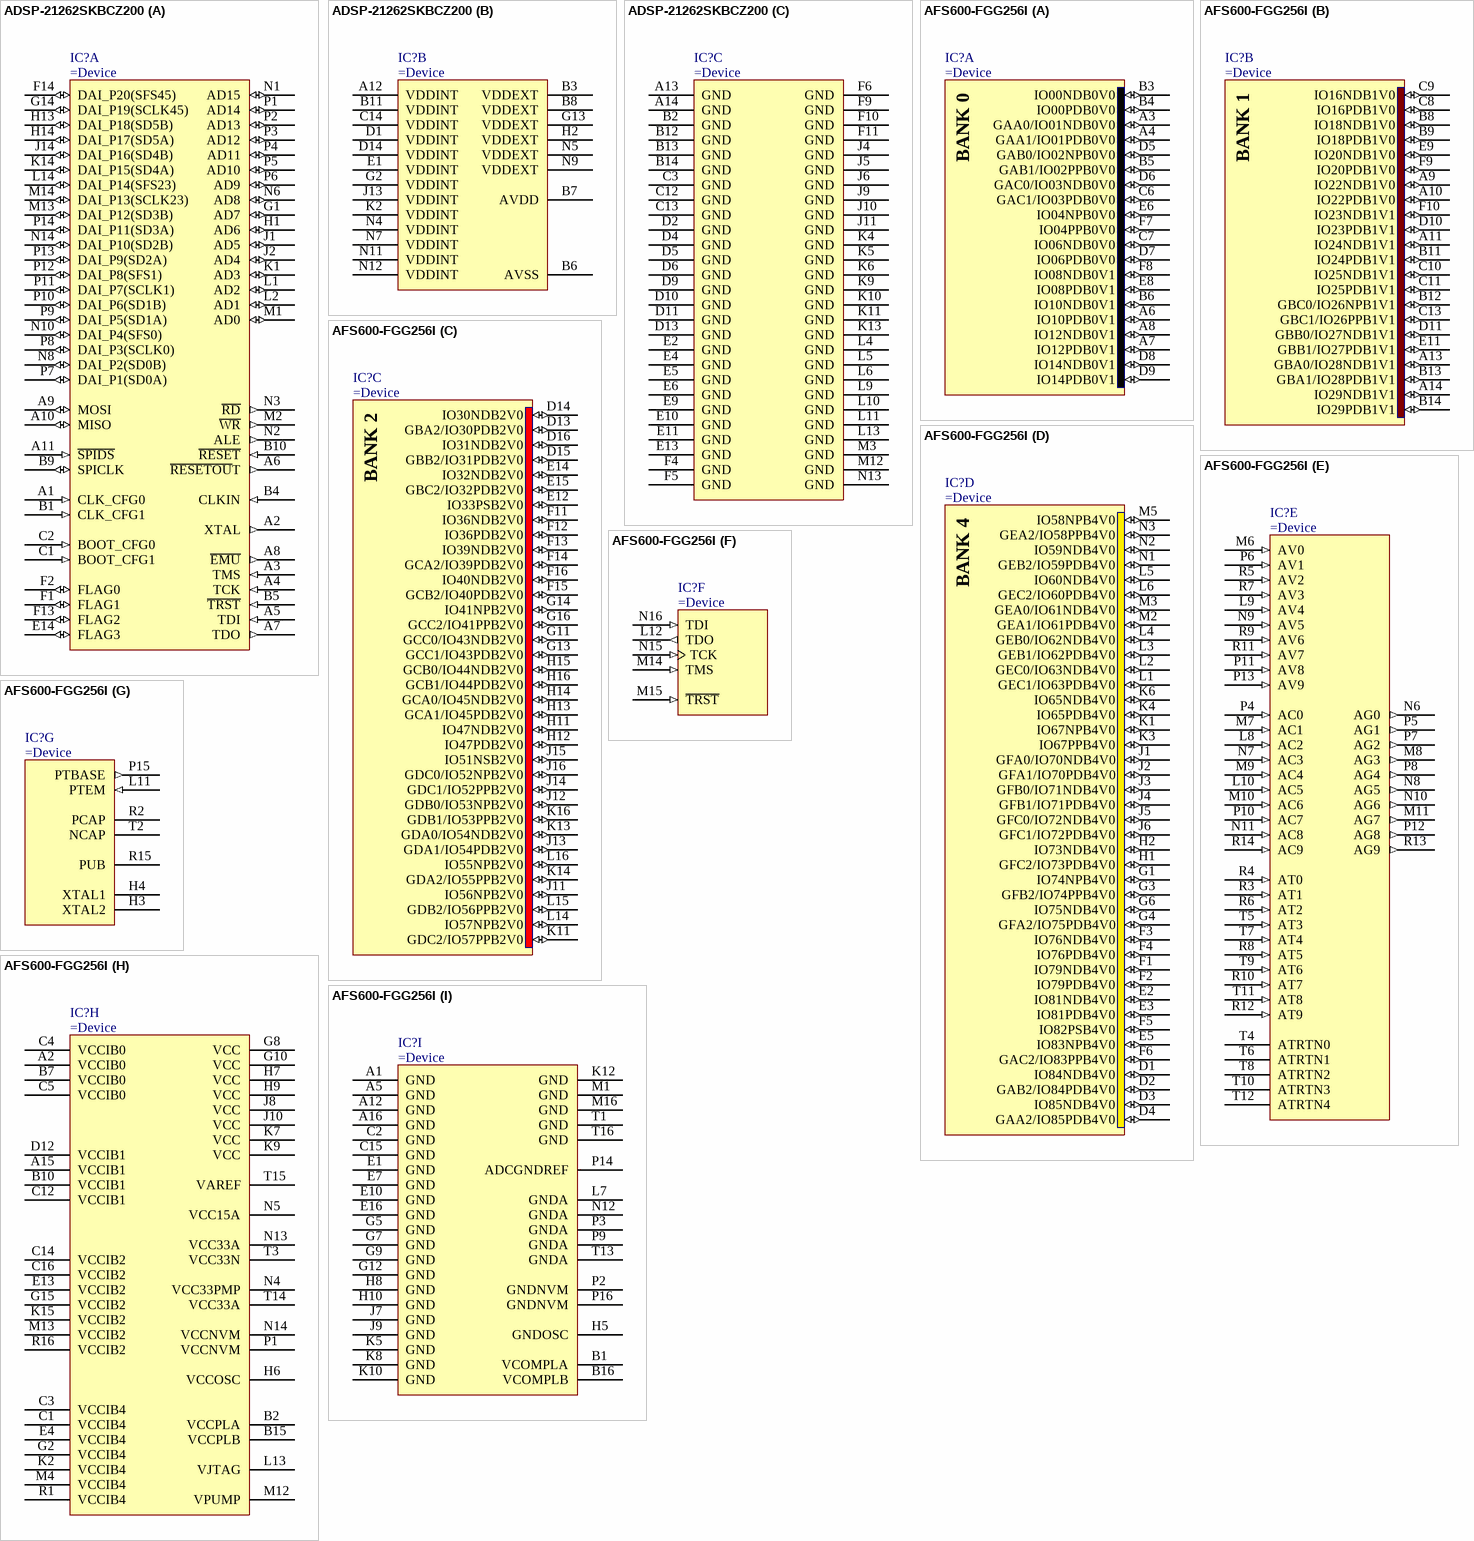
[diagram p31: symbols ADSP-21262SKBCZ200 to AFS600-FGG256I]

## ADSP-21262SKBCZ200
designator IC?
Low Cost 32-Bit Floating-Point SHARC DSP
part A pins: A1 CLK_CFG0 (in), A2 XTAL (out), A3 TMS (in), A4 TCK (in), A5 TDI (in), A6 ~{RESETOU}T (out), A7 TDO (out), A8 ~{EMU} (out), A9 MOSI (io), A10 MISO (io), A11 ~{SPIDS} (in), B1 CLK_CFG1 (in), B4 CLKIN (in), B5 ~{TRST} (in), B9 SPICLK (io), B10 ~{RESET} (in), C1 BOOT_CFG1 (in), C2 BOOT_CFG0 (in), E14 FLAG3 (io), F1 FLAG1 (io), F2 FLAG0 (io), F13 FLAG2 (io), F14 DAI_P20(SFS45) (io), G1 AD7 (io), G14 DAI_P19(SCLK45) (io), H1 AD6 (io), H13 DAI_P18(SD5B) (io), H14 DAI_P17(SD5A) (io), J1 AD5 (io), J2 AD4 (io), J14 DAI_P16(SD4B) (io), K1 AD3 (io), K14 DAI_P15(SD4A) (io), L1 AD2 (io), L2 AD1 (io), L14 DAI_P14(SFS23) (io), M1 AD0 (io), M2 ~{WR} (out), M13 DAI_P12(SD3B) (io), M14 DAI_P13(SCLK23) (io), N1 AD15 (io), N2 ALE (out), N3 ~{RD} (out), N6 AD8 (io), N8 DAI_P2(SD0B) (io), N10 DAI_P4(SFS0) (io), N14 DAI_P10(SD2B) (io), P1 AD14 (io), P2 AD13 (io), P3 AD12 (io), P4 AD11 (io), P5 AD10 (io), P6 AD9 (io), P7 DAI_P1(SD0A) (io), P8 DAI_P3(SCLK0) (io), P9 DAI_P5(SD1A) (io), P10 DAI_P6(SD1B) (io), P11 DAI_P7(SCLK1) (io), P12 DAI_P8(SFS1) (io), P13 DAI_P9(SD2A) (io), P14 DAI_P11(SD3A) (io)
part B pins: A12 VDDINT (power), B3 VDDEXT (power), B6 AVSS (power), B7 AVDD (power), B8 VDDEXT (power), B11 VDDINT (power), C14 VDDINT (power), D1 VDDINT (power), D14 VDDINT (power), E1 VDDINT (power), G2 VDDINT (power), G13 VDDEXT (power), H2 VDDEXT (power), J13 VDDINT (power), K2 VDDINT (power), N4 VDDINT (power), N5 VDDEXT (power), N7 VDDINT (power), N9 VDDEXT (power), N11 VDDINT (power), N12 VDDINT (power)
part C pins: A13 GND (power), A14 GND (power), B2 GND (power), B12 GND (power), B13 GND (power), B14 GND (power), C3 GND (power), C12 GND (power), C13 GND (power), D2 GND (power), D4 GND (power), D5 GND (power), D6 GND (power), D9 GND (power), D10 GND (power), D11 GND (power), D13 GND (power), E2 GND (power), E4 GND (power), E5 GND (power), E6 GND (power), E9 GND (power), E10 GND (power), E11 GND (power), E13 GND (power), F4 GND (power), F5 GND (power), F6 GND (power), F9 GND (power), F10 GND (power), F11 GND (power), J4 GND (power), J5 GND (power), J6 GND (power), J9 GND (power), J10 GND (power), J11 GND (power), K4 GND (power), K5 GND (power), K6 GND (power), K9 GND (power), K10 GND (power), K11 GND (power), K13 GND (power), L4 GND (power), L5 GND (power), L6 GND (power), L9 GND (power), L10 GND (power), L11 GND (power), L13 GND (power), M3 GND (power), M12 GND (power), N13 GND (power)

## AFS600-FGG256I
designator IC?
3.3V Fusion Mixed Signal Flash FPGA, 600,000 System Gates, 256-Pin FBGA, Industrial Grade, Pb-Free
part A pins: A3 GAA0/IO01NDB0V0 (io), A4 GAA1/IO01PDB0V0 (io), A6 IO10PDB0V1 (io), A7 IO12PDB0V1 (io), A8 IO12NDB0V1 (io), B3 IO00NDB0V0 (io), B4 IO00PDB0V0 (io), B5 GAB1/IO02PPB0V0 (io), B6 IO10NDB0V1 (io), C6 GAC1/IO03PDB0V0 (io), C7 IO06NDB0V0 (io), D5 GAB0/IO02NPB0V0 (io), D6 GAC0/IO03NDB0V0 (io), D7 IO06PDB0V0 (io), D8 IO14NDB0V1 (io), D9 IO14PDB0V1 (io), E6 IO04NPB0V0 (io), E8 IO08PDB0V1 (io), F7 IO04PPB0V0 (io), F8 IO08NDB0V1 (io)
part B pins: A9 IO22NDB1V0 (io), A10 IO22PDB1V0 (io), A11 IO24NDB1V1 (io), A13 GBA0/IO28NDB1V1 (io), A14 IO29NDB1V1 (io), B8 IO18NDB1V0 (io), B9 IO18PDB1V0 (io), B11 IO24PDB1V1 (io), B12 GBC0/IO26NPB1V1 (io), B13 GBA1/IO28PDB1V1 (io), B14 IO29PDB1V1 (io), C8 IO16PDB1V0 (io), C9 IO16NDB1V0 (io), C10 IO25NDB1V1 (io), C11 IO25PDB1V1 (io), C13 GBC1/IO26PPB1V1 (io), D10 IO23PDB1V1 (io), D11 GBB0/IO27NDB1V1 (io), E9 IO20NDB1V0 (io), E11 GBB1/IO27PDB1V1 (io), F9 IO20PDB1V0 (io), F10 IO23NDB1V1 (io)
part C pins: D13 GBA2/IO30PDB2V0 (io), D14 IO30NDB2V0 (io), D15 GBB2/IO31PDB2V0 (io), D16 IO31NDB2V0 (io), E12 IO33PSB2V0 (io), E14 IO32NDB2V0 (io), E15 GBC2/IO32PDB2V0 (io), F11 IO36NDB2V0 (io), F12 IO36PDB2V0 (io), F13 IO39NDB2V0 (io), F14 GCA2/IO39PDB2V0 (io), F15 GCB2/IO40PDB2V0 (io), F16 IO40NDB2V0 (io), G11 GCC0/IO43NDB2V0 (io), G13 GCC1/IO43PDB2V0 (io), G14 IO41NPB2V0 (io), G16 GCC2/IO41PPB2V0 (io), H11 IO47NDB2V0 (io), H12 IO47PDB2V0 (io), H13 GCA1/IO45PDB2V0 (io), H14 GCA0/IO45NDB2V0 (io), H15 GCB0/IO44NDB2V0 (io), H16 GCB1/IO44PDB2V0 (io), J11 IO56NPB2V0 (io), J12 GDB0/IO53NPB2V0 (io), J13 GDA1/IO54PDB2V0 (io), J14 GDC1/IO52PPB2V0 (io), J15 IO51NSB2V0 (io), J16 GDC0/IO52NPB2V0 (io), K11 GDC2/IO57PPB2V0 (io), K13 GDA0/IO54NDB2V0 (io), K14 GDA2/IO55PPB2V0 (io), K16 GDB1/IO53PPB2V0 (io), L14 IO57NPB2V0 (io), L15 GDB2/IO56PPB2V0 (io), L16 IO55NPB2V0 (io)
part D pins: D1 IO84NDB4V0 (io), D2 GAB2/IO84PDB4V0 (io), D3 IO85NDB4V0 (io), D4 GAA2/IO85PDB4V0 (io), E2 IO81NDB4V0 (io), E3 IO81PDB4V0 (io), E5 IO83NPB4V0 (io), F1 IO79NDB4V0 (io), F2 IO79PDB4V0 (io), F3 IO76NDB4V0 (io), F4 IO76PDB4V0 (io), F5 IO82PSB4V0 (io), F6 GAC2/IO83PPB4V0 (io), G1 IO74NPB4V0 (io), G3 GFB2/IO74PPB4V0 (io), G4 GFA2/IO75PDB4V0 (io), G6 IO75NDB4V0 (io), H1 GFC2/IO73PDB4V0 (io), H2 IO73NDB4V0 (io), J1 GFA0/IO70NDB4V0 (io), J2 GFA1/IO70PDB4V0 (io), J3 GFB0/IO71NDB4V0 (io), J4 GFB1/IO71PDB4V0 (io), J5 GFC0/IO72NDB4V0 (io), J6 GFC1/IO72PDB4V0 (io), K1 IO67NPB4V0 (io), K3 IO67PPB4V0 (io), K4 IO65PDB4V0 (io), K6 IO65NDB4V0 (io), L1 GEC1/IO63PDB4V0 (io), L2 GEC0/IO63NDB4V0 (io), L3 GEB1/IO62PDB4V0 (io), L4 GEB0/IO62NDB4V0 (io), L5 IO60NDB4V0 (io), L6 GEC2/IO60PDB4V0 (io), M2 GEA1/IO61PDB4V0 (io), M3 GEA0/IO61NDB4V0 (io), M5 IO58NPB4V0 (io), N1 GEB2/IO59PDB4V0 (io), N2 IO59NDB4V0 (io), N3 GEA2/IO58PPB4V0 (io)
part E pins: L8 AC2 (in) "Analog current pad 2.", L9 AV4 (in) "Analog voltage pad 4.", L10 AC5 (in) "Analog current pad 5.", M6 AV0 (in) "Analog voltage pad 0.", M7 AC1 (in) "Analog current pad 1.", M8 AG3 (out) "Analog gate driver pad 3.", M9 AC4 (in) "Analog current pad 4.", M10 AC6 (in) "Analog current pad 6.", M11 AG7 (out) "Analog gate driver pad 7.", N6 AG0 (out) "Analog gate driver pad 0.", N7 AC3 (in) "Analog current pad 3.", N8 AG5 (out) "Analog gate driver pad 5.", N9 AV5 (in) "Analog voltage pad 5.", N10 AG6 (out) "Analog gate driver pad 6.", N11 AC8 (in) "Analog current pad 8.", P4 AC0 (in) "Analog current pad 0.", P5 AG1 (out) "Analog gate driver pad 1.", P6 AV1 (in) "Analog voltage pad 1.", P7 AG2 (out) "Analog gate driver pad 2.", P8 AG4 (out) "Analog gate driver pad 4.", P10 AC7 (in) "Analog current pad 7.", P11 AV8 (in) "Analog voltage pad 8.", P12 AG8 (out) "Analog gate driver pad 8.", P13 AV9 (in) "Analog voltage pad 9.", R3 AT1 (in) "Analog temperature pad 1.", R4 AT0 (in) "Analog temperature pad 0.", R5 AV2 (in) "Analog voltage pad 2.", R6 AT2 (in) "Analog temperature pad 2.", R7 AV3 (in) "Analog voltage pad 3.", R8 AT5 (in) "Analog temperature pad 5.", R9 AV6 (in) "Analog voltage pad 6.", R10 AT7 (in) "Analog temperature pad 7.", R11 AV7 (in) "Analog voltage pad 7.", R12 AT9 (in) "Analog temperature pad 9.", R13 AG9 (out) "Analog gate driver pad 9.", R14 AC9 (in) "Analog current pad 9.", T4 ATRTN0 "Temperature monitor return 0.", T5 AT3 (in) "Analog temperature pad 3.", T6 ATRTN1 "Temperature monitor return 1.", T7 AT4 (in) "Analog temperature pad 4.", T8 ATRTN2 "Temperature monitor return 2.", T9 AT6 (in) "Analog temperature pad 6.", T10 ATRTN3 "Temperature monitor return 3.", T11 AT8 (in) "Analog temperature pad 8.", T12 ATRTN4 "Temperature monitor return 4."
part F pins: L12 TDO (out), M14 TMS (in), M15 ~{TRST} (in), N15 TCK (in), N16 TDI (in)
part G pins: H3 XTAL2 "Input to crystal oscillator - If using external RC network or clock input, XTAL1 should be used and XTAL2 left unconnected.", H4 XTAL1 "Input to crystal oscillator - If using external RC network or clock input, XTAL1 should be used and XTAL2 left unconnected.", L11 PTEM (in) "PASS TRANSISTOR EMITTER - The feedback input of the voltage regulator.", P15 PTBASE (out) "PASS TRANSISTOR BASE - The control signal of the voltage regulator.", R2 PCAP "POSITIVE CAPACITOR - where the positive terminal of the charge pump capacitor is connected.", R15 PUB "Power up bar - for the external momentary switch which turns on the 1.5V regulator.", T2 NCAP "NEGATIVE CAPACITOR - where the negative terminal of the charge pump capacitor is connected."
part H pins: A2 VCCIB0 (power), A15 VCCIB1 (power), B2 VCCPLA (power), B7 VCCIB0 (power), B10 VCCIB1 (power), B15 VCCPLB (power), C1 VCCIB4 (power), C3 VCCIB4 (power) "Quiet supply voltage to the input buffers of bank 4.", C4 VCCIB0 (power) "Quiet supply voltage to the input buffers of bank 0.", C5 VCCIB0 (power), C12 VCCIB1 (power), C14 VCCIB2 (power) "Quiet supply voltage to the input buffers of bank 2.", C16 VCCIB2 (power), D12 VCCIB1 (power) "Quiet supply voltage to the input buffers of bank 1.", E4 VCCIB4 (power), E13 VCCIB2 (power), G2 VCCIB4 (power), G8 VCC (power), G10 VCC (power), G15 VCCIB2 (power), H6 VCCOSC (power), H7 VCC (power), H9 VCC (power), J8 VCC (power), J10 VCC (power), K2 VCCIB4 (power), K7 VCC (power), K9 VCC (power), K15 VCCIB2 (power), L13 VJTAG (power), M4 VCCIB4 (power), M12 VPUMP (power), M13 VCCIB2 (power), N4 VCC33PMP (power) "3.3V clean analog power supply input for use by the analog charge pump.", N5 VCC15A (power), N13 VCC33A (power), N14 VCCNVM (power) "1.5V power supply used by the Fusion device's Flash memory block module(s).", P1 VCCNVM (power) "1.5V power supply used by the Fusion device's Flash memory block module(s).", R1 VCCIB4 (power), R16 VCCIB2 (power), T3 VCC33N (power) "-3.3V output from the voltage converter. A 2.2µF capacitor must be connected from this pin to ground.", T14 VCC33A (power) "Analog power pin for the analog power supply low pass filter. An external 1µF capacitor should be connected between this pin and ground.", T15 VAREF (power) "Analog reference voltage to be used by analog to digital converter."
part I pins: A1 GND (power), A5 GND (power), A12 GND (power), A16 GND (power), B1 VCOMPLA (power), B16 VCOMPLB (power), C2 GND (power), C15 GND (power), E1 GND (power), E7 GND (power), E10 GND (power), E16 GND (power), G5 GND (power), G7 GND (power), G9 GND (power), G12 GND (power), H5 GNDOSC (power) "Oscillator ground.", H8 GND (power), H10 GND (power), J7 GND (power), J9 GND (power), K5 GND (power), K8 GND (power), K10 GND (power), K12 GND (power), L7 GNDA (power), M1 GND (power), M16 GND (power), N12 GNDA (power), P2 GNDNVM (power) "Flash memory ground.", P3 GNDA (power), P9 GNDA (power), P14 ADCGNDREF (power) "Analog ground reference used by the ADC.", P16 GNDNVM (power) "Flash memory ground.", T1 GND (power), T13 GNDA (power), T16 GND (power)
part A text: BANK 0
part B text: BANK 1
part C text: BANK 2
part D text: BANK 4

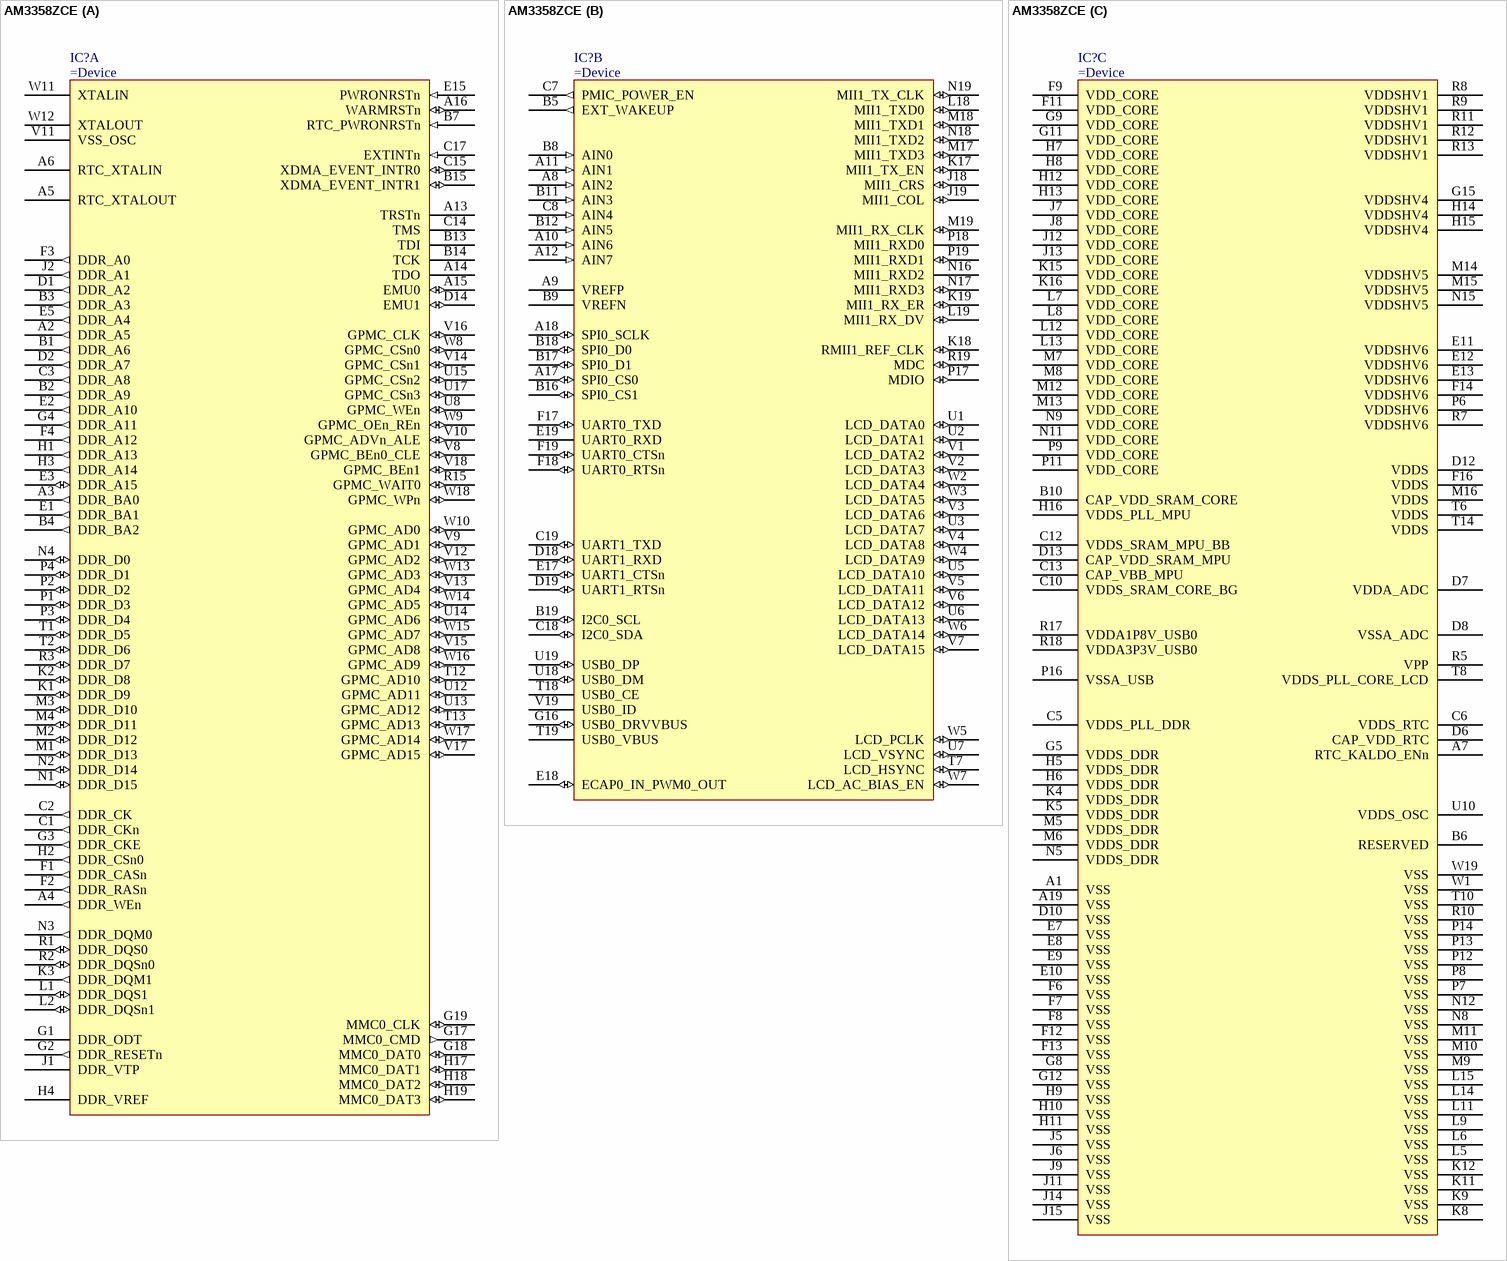
[diagram p32: symbol AM3358ZCE]

## AM3358ZCE
designator IC?
SubArctic Cortex A8 Processor
part A pins: A2 DDR_A5 (out), A3 DDR_BA0 (out), A4 DDR_WEn (out), A5 RTC_XTALOUT, A6 RTC_XTALIN, A13 TRSTn, A14 TDO, A15 EMU0 (io), A16 WARMRSTn (io), B1 DDR_A6 (out), B2 DDR_A9 (out), B3 DDR_A3 (out), B4 DDR_BA2 (out), B7 RTC_PWRONRSTn (in), B13 TDI, B14 TCK, B15 XDMA_EVENT_INTR1 (io), C1 DDR_CKn (out), C2 DDR_CK (out), C3 DDR_A8 (out), C14 TMS, C15 XDMA_EVENT_INTR0 (io), C17 EXTINTn (in), D1 DDR_A2 (out), D2 DDR_A7 (out), D14 EMU1 (io), E1 DDR_BA1 (out), E2 DDR_A10 (out), E3 DDR_A15 (io), E5 DDR_A4 (out), E15 PWRONRSTn (in), F1 DDR_CASn (out), F2 DDR_RASn (out), F3 DDR_A0 (out), F4 DDR_A12 (out), G1 DDR_ODT, G2 DDR_RESETn (out), G3 DDR_CKE (out), G4 DDR_A11 (out), G17 MMC0_CMD (out), G18 MMC0_DAT0 (io), G19 MMC0_CLK (io), H1 DDR_A13 (out), H2 DDR_CSn0 (out), H3 DDR_A14 (out), H4 DDR_VREF, H17 MMC0_DAT1 (io), H18 MMC0_DAT2 (io), H19 MMC0_DAT3 (io), J1 DDR_VTP, J2 DDR_A1 (out), K1 DDR_D9 (io), K2 DDR_D8 (io), K3 DDR_DQM1 (out), L1 DDR_DQS1 (io), L2 DDR_DQSn1 (io), M1 DDR_D13 (io), M2 DDR_D12 (io), M3 DDR_D10 (io), M4 DDR_D11 (io), N1 DDR_D15 (io), N2 DDR_D14 (io), N3 DDR_DQM0 (out), N4 DDR_D0 (io), P1 DDR_D3 (io), P2 DDR_D2 (io), P3 DDR_D4 (io), P4 DDR_D1 (io), R1 DDR_DQS0 (io), R2 DDR_DQSn0 (io), R3 DDR_D7 (io), R15 GPMC_WAIT0 (io), T1 DDR_D5 (io), T2 DDR_D6 (io), T12 GPMC_AD10 (io), T13 GPMC_AD13 (io), U8 GPMC_WEn (io), U12 GPMC_AD11 (io), U13 GPMC_AD12 (io), U14 GPMC_AD6 (io), U15 GPMC_CSn2 (io), U17 GPMC_CSn3 (io), V8 GPMC_BEn0_CLE (io), V9 GPMC_AD1 (io), V10 GPMC_ADVn_ALE (io), V11 VSS_OSC (power), V12 GPMC_AD2 (io), V13 GPMC_AD4 (io), V14 GPMC_CSn1 (io), V15 GPMC_AD8 (io), V16 GPMC_CLK (io), V17 GPMC_AD15 (io), V18 GPMC_BEn1 (io), W8 GPMC_CSn0 (io), W9 GPMC_OEn_REn (io), W10 GPMC_AD0 (io), W11 XTALIN, W12 XTALOUT, W13 GPMC_AD3 (io), W14 GPMC_AD5 (io), W15 GPMC_AD7 (io), W16 GPMC_AD9 (io), W17 GPMC_AD14 (io), W18 GPMC_WPn (io)
part B pins: A8 AIN2 (in), A9 VREFP, A10 AIN6 (in), A11 AIN1 (in), A12 AIN7 (in), A17 SPI0_CS0 (io), A18 SPI0_SCLK (io), B5 EXT_WAKEUP (out), B8 AIN0 (in), B9 VREFN, B11 AIN3 (in), B12 AIN5 (in), B16 SPI0_CS1 (io), B17 SPI0_D1 (io), B18 SPI0_D0 (io), B19 I2C0_SCL (io), C7 PMIC_POWER_EN (out), C8 AIN4 (in), C18 I2C0_SDA (io), C19 UART1_TXD (io), D18 UART1_RXD (io), D19 UART1_RTSn (io), E17 UART1_CTSn (io), E18 ECAP0_IN_PWM0_OUT (io), E19 UART0_RXD, F17 UART0_TXD (io), F18 UART0_RTSn (io), F19 UART0_CTSn (io), G16 USB0_DRVVBUS (io), J18 MII1_CRS (io), J19 MII1_COL (io), K17 MII1_TX_EN (io), K18 RMII1_REF_CLK (io), K19 MII1_RX_ER (io), L18 MII1_TXD0 (io), L19 MII1_RX_DV (io), M17 MII1_TXD3 (io), M18 MII1_TXD1 (io), M19 MII1_RX_CLK (io), N16 MII1_RXD2, N17 MII1_RXD3 (io), N18 MII1_TXD2 (io), N19 MII1_TX_CLK (io), P17 MDIO (io), P18 MII1_RXD0, P19 MII1_RXD1 (io), R19 MDC (io), T7 LCD_HSYNC (io), T18 USB0_CE, T19 USB0_VBUS, U1 LCD_DATA0 (io), U2 LCD_DATA1 (io), U3 LCD_DATA7 (io), U5 LCD_DATA10 (io), U6 LCD_DATA13 (io), U7 LCD_VSYNC (io), U18 USB0_DM (io), U19 USB0_DP (io), V1 LCD_DATA2 (io), V2 LCD_DATA3 (io), V3 LCD_DATA6 (io), V4 LCD_DATA8 (io), V5 LCD_DATA11 (io), V6 LCD_DATA12 (io), V7 LCD_DATA15 (io), V19 USB0_ID, W2 LCD_DATA4 (io), W3 LCD_DATA5 (io), W4 LCD_DATA9 (io), W5 LCD_PCLK (io), W6 LCD_DATA14 (io), W7 LCD_AC_BIAS_EN (io)
part C pins: A1 VSS (power), A7 RTC_KALDO_ENn (power), A19 VSS (power), B6 RESERVED, B10 CAP_VDD_SRAM_CORE (power), C5 VDDS_PLL_DDR (power), C6 VDDS_RTC (power), C10 VDDS_SRAM_CORE_BG (power), C12 VDDS_SRAM_MPU_BB (power), C13 CAP_VBB_MPU (power), D6 CAP_VDD_RTC (power), D7 VDDA_ADC (power), D8 VSSA_ADC (power), D10 VSS (power), D12 VDDS (power), D13 CAP_VDD_SRAM_MPU (power), E7 VSS (power), E8 VSS (power), E9 VSS (power), E10 VSS (power), E11 VDDSHV6 (power), E12 VDDSHV6 (power), E13 VDDSHV6 (power), F6 VSS (power), F7 VSS (power), F8 VSS (power), F9 VDD_CORE (power), F11 VDD_CORE (power), F12 VSS (power), F13 VSS (power), F14 VDDSHV6 (power), F16 VDDS (power), G5 VDDS_DDR (power), G8 VSS (power), G9 VDD_CORE (power), G11 VDD_CORE (power), G12 VSS (power), G15 VDDSHV4 (power), H5 VDDS_DDR (power), H6 VDDS_DDR (power), H7 VDD_CORE (power), H8 VDD_CORE (power), H9 VSS (power), H10 VSS (power), H11 VSS (power), H12 VDD_CORE (power), H13 VDD_CORE (power), H14 VDDSHV4 (power), H15 VDDSHV4 (power), H16 VDDS_PLL_MPU (power), J5 VSS (power), J6 VSS (power), J7 VDD_CORE (power), J8 VDD_CORE (power), J9 VSS (power), J11 VSS (power), J12 VDD_CORE (power), J13 VDD_CORE (power), J14 VSS (power), J15 VSS (power), K4 VDDS_DDR (power), K5 VDDS_DDR (power), K8 VSS (power), K9 VSS (power), K11 VSS (power), K12 VSS (power), K15 VDD_CORE (power), K16 VDD_CORE (power), L5 VSS (power), L6 VSS (power), L7 VDD_CORE (power), L8 VDD_CORE (power), L9 VSS (power), L11 VSS (power), L12 VDD_CORE (power), L13 VDD_CORE (power), L14 VSS (power), L15 VSS (power), M5 VDDS_DDR (power), M6 VDDS_DDR (power), M7 VDD_CORE (power), M8 VDD_CORE (power), M9 VSS (power), M10 VSS (power), M11 VSS (power), M12 VDD_CORE (power), M13 VDD_CORE (power), M14 VDDSHV5 (power), M15 VDDSHV5 (power), M16 VDDS (power), N5 VDDS_DDR (power), N8 VSS (power), N9 VDD_CORE (power), N11 VDD_CORE (power), N12 VSS (power), N15 VDDSHV5 (power), P6 VDDSHV6 (power), P7 VSS (power), P8 VSS (power), P9 VDD_CORE (power), P11 VDD_CORE (power), P12 VSS (power), P13 VSS (power), P14 VSS (power), P16 VSSA_USB (power), R5 VPP (power), R7 VDDSHV6 (power), R8 VDDSHV1 (power), R9 VDDSHV1 (power), R10 VSS (power), R11 VDDSHV1 (power), R12 VDDSHV1 (power), R13 VDDSHV1 (power), R17 VDDA1P8V_USB0 (power), R18 VDDA3P3V_USB0 (power), T6 VDDS (power), T8 VDDS_PLL_CORE_LCD (power), T10 VSS (power), T14 VDDS (power), U10 VDDS_OSC (power), W1 VSS (power), W19 VSS (power)

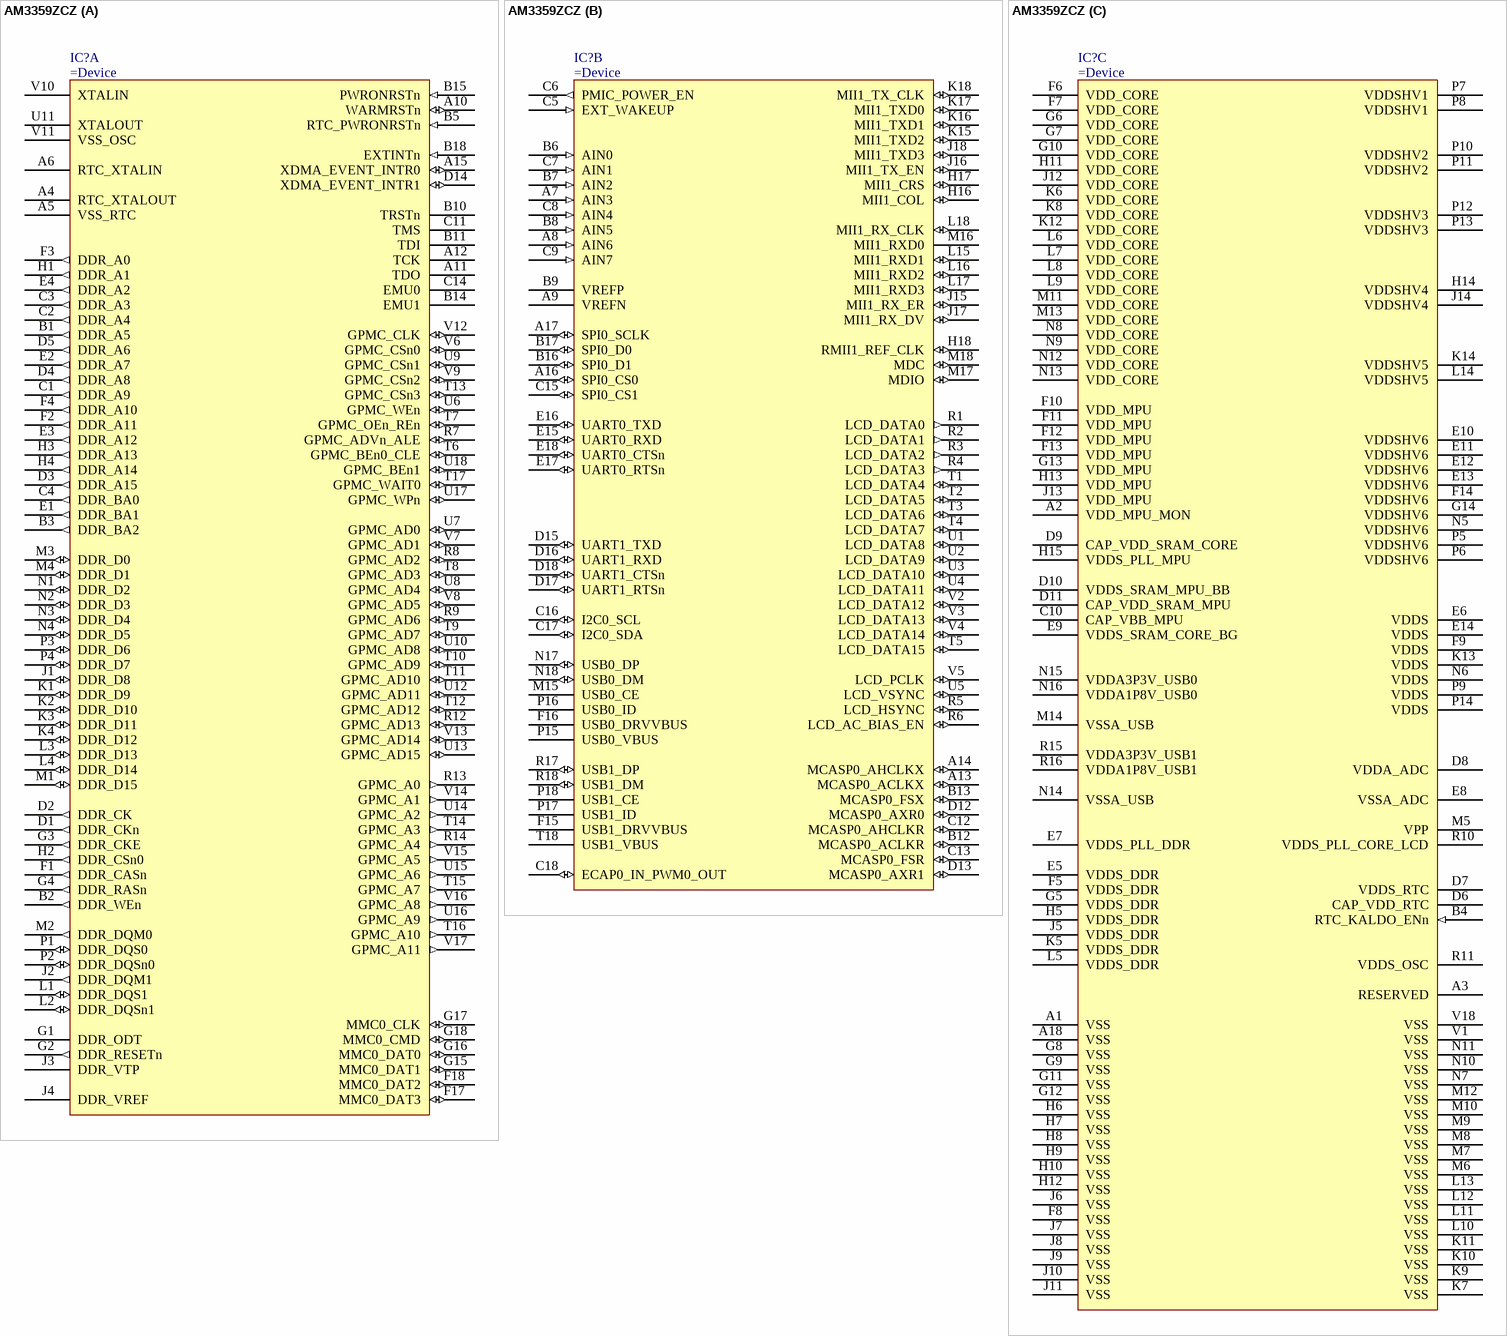
[diagram p33: symbol AM3359ZCZ]